# EAGLE library part SP2526A-1EN-L (library Sipex_By_element14_Batch_1)
Dual USB High-Side Power Switch
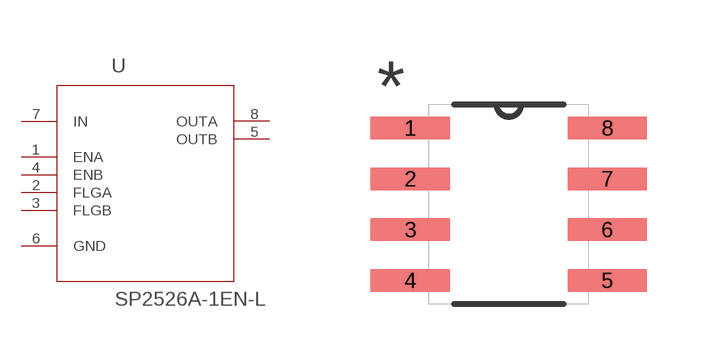
[diagram p0: symbol with the pads of SOIC127P600X175-8N; footprint SOIC127P600X175-8N]

Designator prefix U

## SP2526A-1EN-L (MPN: SP2526A-1EN-L; OC_FARNELL: 1831931; OC_NEWARK: 24R0114; PACKAGE: SOIC-8; SUPPLIER: Sipex Corporation)  [SOIC127P600X175-8N]
1  ENA  in
2  FLGA  in
3  FLGB  in
4  ENB  in
5  OUTB  out
6  GND  pas
7  IN  pwr
8  OUTA  out

## Footprint SOIC127P600X175-8N (pad centres in mm)
smd 1.981 x 0.559: 1 -2.464,1.905; 2 -2.464,0.635; 3 -2.464,-0.635; 4 -2.464,-1.905; 5 2.464,-1.905; 6 2.464,-0.635; 7 2.464,0.635; 8 2.464,1.905